# Altium integrated library RT6150B-33GQW.IntLib: 1 symbol
Pins are listed as number, name and electrical type; pins without a type are passive.

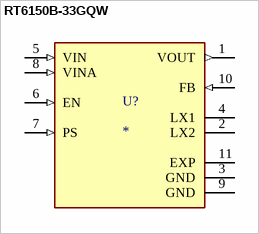
[diagram p0: symbol RT6150B-33GQW]

## RT6150B-33GQW
designator U?
Buck-Boost Switching Regulator IC Positive Fixed 3.3V 1 Output 800mA 10-WFDFN Exposed Pad; MF: Richtek USA; MP: RT6150B-33GQW; SnapEDA_Link: https://www.snapeda.com/parts/RT6150B-33GQW/Richtek+USA+Inc./view-part/?ref=snap; Package: WFDFN-10 Richtek; Value: *; Check_prices: https://www.snapeda.com/parts/RT6150B-33GQW/Richtek+USA+Inc./view-part/?ref=eda
footprint SON50P250X250X80-11N
pins: 1 VOUT (out), 2 LX2, 3 GND (power), 4 LX1, 5 VIN (in), 6 EN (in), 7 PS (in), 8 VINA (in), 9 GND (power), 10 FB (in), 11 EXP (power)